# EAGLE library part CMM-4030D-261-I2S-TR (library SamacSys_Parts)
MEMS Microphones Microphone, 4mm x 3mm x1.25mm deep, MEMs,omnidirectional, SMT, digital, I2S, 1.8V, T&R Source: Datasheet <https://www.mouser.co.uk/datasheet/2/670/cmm_4030d_261_i2s_tr-1892247.pdf>
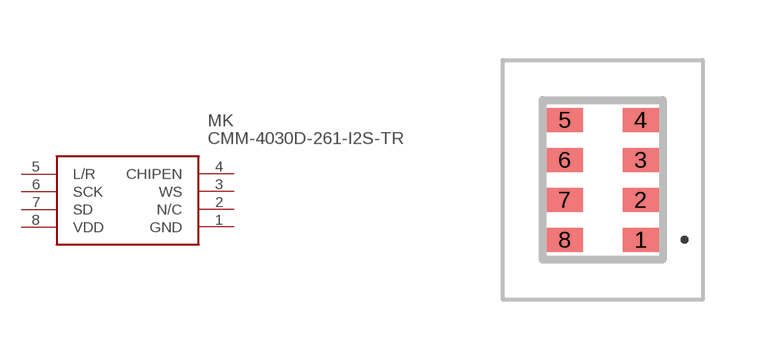
[diagram p11: symbol with the pads of CMM4030D261I2STR; footprint CMM4030D261I2STR]

Designator prefix MK

## CMM-4030D-261-I2S-TR (DESCRIPTION: MEMS Microphones Microphone, 4mm x 3mm x1.25mm deep, MEMs,omnidirectional, SMT, digital, I2S, 1.8V, T&R; HEIGHT: 1.35mm; MANUFACTURER_NAME: CUI Inc.; MANUFACTURER_PART_NUMBER: CMM-4030D-261-I2S-TR; MOUSER_PART_NUMBER: 490-CMM4030D261I2STR; MOUSER_PRICE-STOCK: https://www.mouser.co.uk/ProductDetail/CUI-Devices/CMM-4030D-261-I2S-TR?qs=hWgE7mdIu5S0cyoxFo6Z3Q%3D%3D)  [CMM4030D261I2STR]
1  GND
2  N/C  nc
3  WS
4  CHIPEN
5  L/R
6  SCK
7  SD
8  VDD

## Footprint CMM4030D261I2STR (pad centres in mm)
CMM-4030D-261-I2S-TR-1
smd 0.9 x 0.6: 1 0.95,-1.5; 2 0.95,-0.5; 3 0.95,0.5; 4 0.95,1.5; 5 -0.95,1.5; 6 -0.95,0.5; 7 -0.95,-0.5; 8 -0.95,-1.5